# Altium footprint library SHDR6W64P254_2X3_1528X910X910P.PcbLib: 1 footprints
Each footprint in its own frame and in the unit in brackets; x right, y up, seen from the top. Pads: shape width x height; smd on the part's side, far side on the other; paste and mask are expansions set on the pad; w line width, h text height; cw(c..) or ccw(c..) is an arc to the next point about the centre after c.
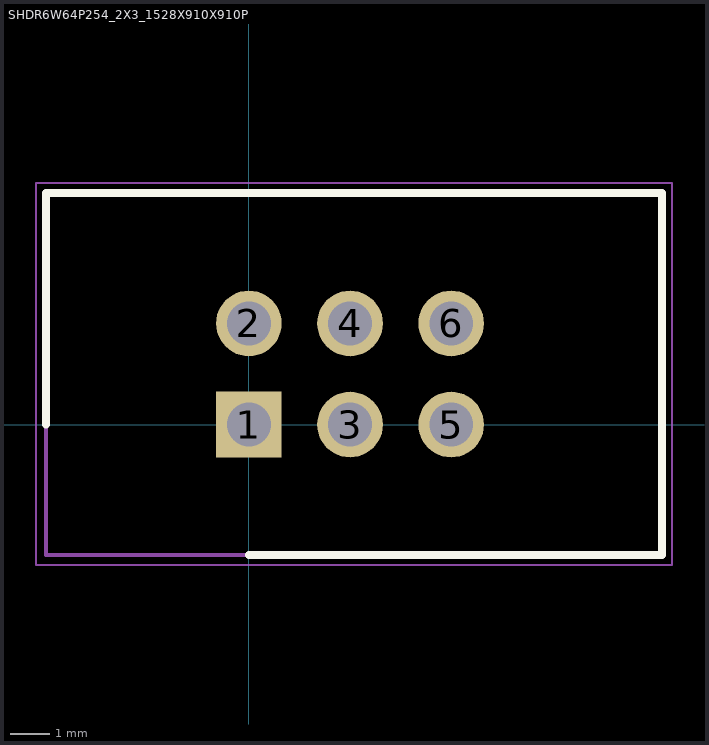
[diagram p0: the footprint, top view; thin cyan lines are the x and y axes]

## SHDR6W64P254_2X3_1528X910X910P [mm]
pads (6):
  rect 1.65x1.65 / inner round 1.65 / far side rect 1.65x1.65 hole 1.1: 1(0,0)
  round 1.65 hole 1.1: 2(0,2.54) 3(2.54,0) 4(2.54,2.54) 5(5.08,0) 6(5.08,2.54)
Top Overlay:
  lines w0.2: -5.1,0 -5.1,5.82 10.38,5.82 10.38,-3.28 0,-3.28
Mechanical 15:
  lines w0.1: -5.1,-3.28 10.38,-3.28 10.38,5.82 -5.1,5.82 -5.1,-3.28
Mechanical 20:
  lines w0.05: -5.35,-3.53 10.63,-3.53 10.63,6.07 -5.35,6.07 -5.35,-3.53
3D body "61200621621.stp": height 9.1, standoff -3, extent -5.1,-3.026 10.18,6.074